# Altium schematic symbol library N-MOSFET.Schlib: 1 symbol
Pins are listed as number, name and electrical type; pins without a type are passive.

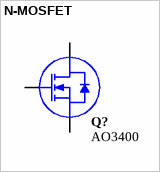
[diagram p0: symbol N-MOSFET]

## N-MOSFET
designator Q?, comment AO3400
N-channel Enhancement Mode Field-effect Transistor;  5.8A/30V
pins: 1 G, 2 S, 3 D